# Altium schematic symbol library laser.SchLib: 1 symbol
Pins are listed as number, name and electrical type; pins without a type are passive.

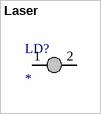
[diagram p0: symbol Laser]

## Laser
designator LD?
footprint laser
pins: 1 +, 2 -